# Altium footprint library S805_PCB_LIB.PcbLib: 12 footprints
Each footprint in its own frame and in the unit in brackets; x right, y up, seen from the top. Pads: shape width x height; smd on the part's side, far side on the other; paste and mask are expansions set on the pad; w line width, h text height; cw(c..) or ccw(c..) is an arc to the next point about the centre after c.
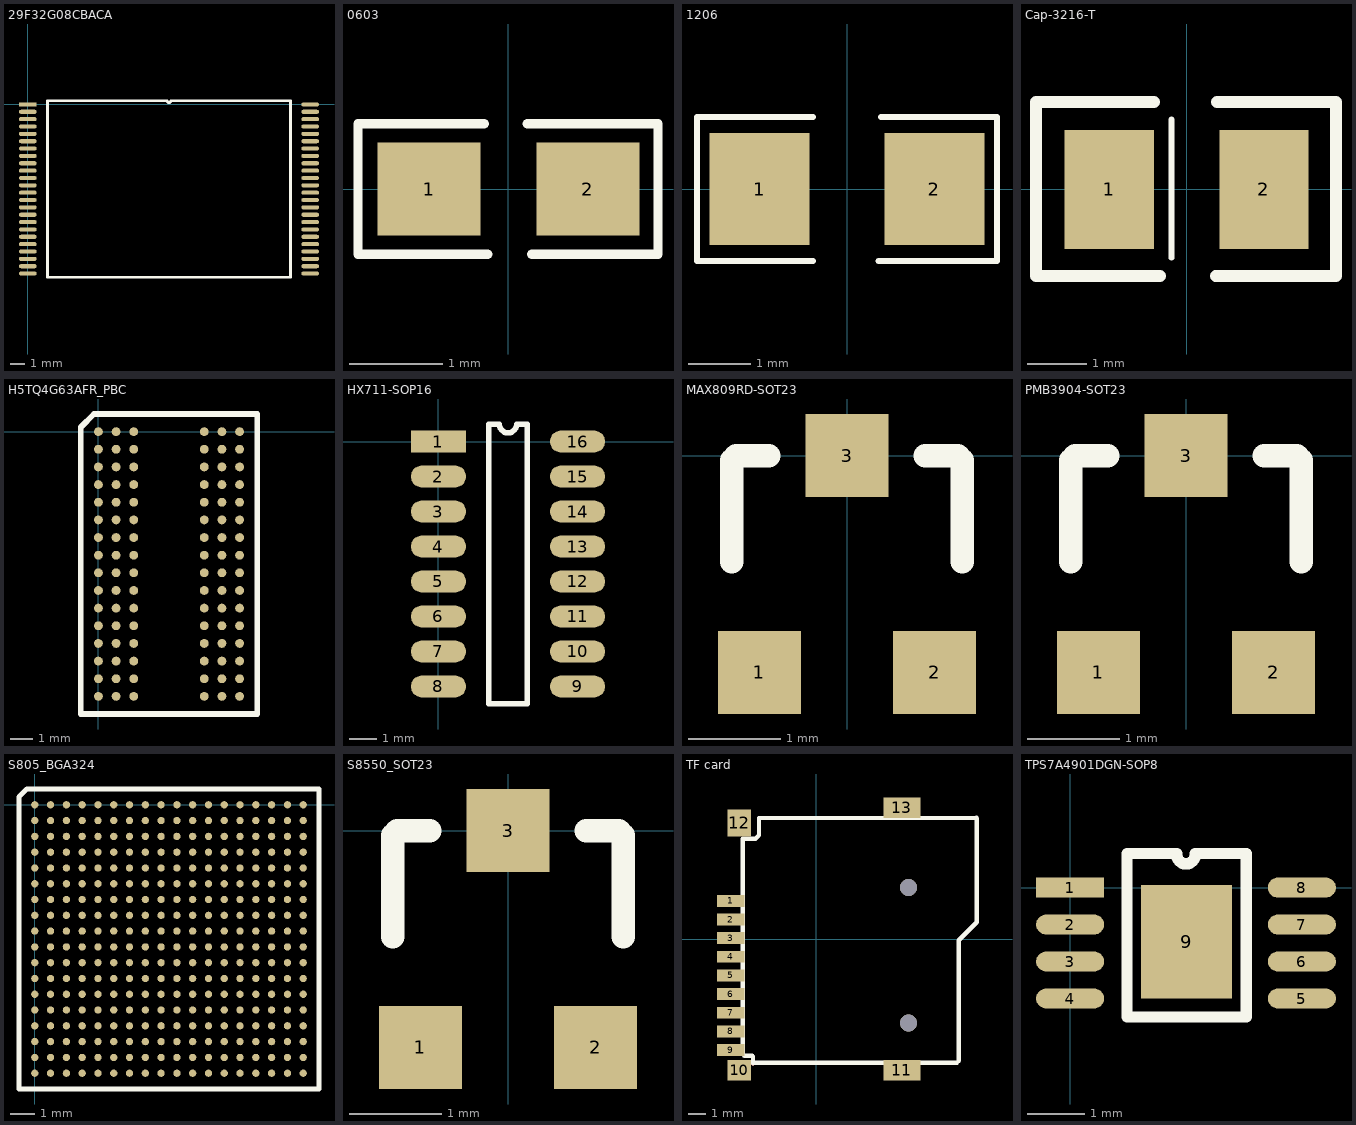
[diagram p0: the footprints below, top view; thin cyan lines are the x and y axes]

## 29F32G08CBACA [mm]
pads (48):
  rect 1.2x0.28 smd: 1(0,0)
  oval 1.2x0.28 smd: 2(0,-0.5) 3(0,-1) 4(0,-1.5) 5(0,-2) 6(0,-2.5) 7(0,-3) 8(0,-3.5) 9(0,-4) 10(0,-4.5) 11(0,-5) 12(0,-5.5) 13(0,-6) 14(0,-6.5) 15(0,-7) 16(0,-7.5) 17(0,-8) 18(0,-8.5) 19(0,-9) 20(0,-9.5) 21(0,-10) 22(0,-10.5) 23(0,-11) 24(0,-11.5) 25(19.2,-11.5) 26(19.2,-11) 27(19.2,-10.5) 28(19.2,-10) 29(19.2,-9.5) 30(19.2,-9) 31(19.2,-8.5) 32(19.2,-8) 33(19.2,-7.5) 34(19.2,-7) 35(19.2,-6.5) 36(19.2,-6) 37(19.2,-5.5) 38(19.2,-5) 39(19.2,-4.5) 40(19.2,-4) 41(19.2,-3.5) 42(19.2,-3) 43(19.2,-2.5) 44(19.2,-2) 45(19.2,-1.5) 46(19.2,-1) 47(19.2,-0.5) 48(19.2,0)
Top Overlay:
  lines w0.2: 1.335,-11.75 17.865,-11.75 17.865,0.25 9.725,0.25 cw(c9.6,0.25) 9.475,0.25 1.335,0.25 1.335,-11.75

## 0603 [mm]
pads (2):
  rect 1.1x1 smd: 1(-0.85,0) 2(0.85,0)
Top Overlay:
  lines w0.1: -0.26,0.7 -1.61,0.7 -1.61,-0.7 -0.22,-0.7 ; 0.2,0.7 1.6,0.7 1.6,-0.7 0.25,-0.7

## 1206 [mm]
pads (2):
  rect 1.6x1.8 smd: 1(-1.4,0) 2(1.4,0)
Top Overlay:
  lines w0.1: -0.55,-1.15 -2.4,-1.15 -2.4,1.15 -0.55,1.15 ; 0.51,-1.15 2.4,-1.15 2.4,1.15 0.55,1.15

## Cap-3216-T [mm]
pads (2):
  rect 1.5x2 smd: 1(-1.3,0) 2(1.3,0)
Top Overlay:
  lines w0.1: -0.25,-1.15 -0.25,1.17
  lines w0.2: -0.55,1.47 -2.53,1.47 -2.53,1.02 -2.53,-1.46 -0.45,-1.46 ; 0.49,-1.46 2.51,-1.46 2.51,1.47 0.51,1.47

## H5TQ4G63AFR_PBC [mm]
pads (96):
  round 0.4 smd: A1(0,0) A2(0.8,0) A3(1.6,0) A7(4.8,0) A8(5.6,0) A9(6.4,0) B1(0,-0.8) B2(0.8,-0.8) B3(1.6,-0.8) B7(4.8,-0.8) B8(5.6,-0.8) B9(6.4,-0.8) C1(0,-1.6) C2(0.8,-1.6) C3(1.6,-1.6) C7(4.8,-1.6) C8(5.6,-1.6) C9(6.4,-1.6) D1(0,-2.4) D2(0.8,-2.4) D3(1.6,-2.4) D7(4.8,-2.4) D8(5.6,-2.4) D9(6.4,-2.4) E1(0,-3.2) E2(0.8,-3.2) E3(1.6,-3.2) E7(4.8,-3.2) E8(5.6,-3.2) E9(6.4,-3.2) F1(0,-4) F2(0.8,-4) F3(1.6,-4) F7(4.8,-4) F8(5.6,-4) F9(6.4,-4) G1(0,-4.8) G2(0.8,-4.8) G3(1.6,-4.8) G7(4.8,-4.8) G8(5.6,-4.8) G9(6.4,-4.8) H1(0,-5.6) H2(0.8,-5.6) H3(1.6,-5.6) H7(4.8,-5.6) H8(5.6,-5.6) H9(6.4,-5.6) J1(0,-6.4) J2(0.8,-6.4) J3(1.6,-6.4) J7(4.8,-6.4) J8(5.6,-6.4) J9(6.4,-6.4) K1(0,-7.2) K2(0.8,-7.2) K3(1.6,-7.2) K7(4.8,-7.2) K8(5.6,-7.2) K9(6.4,-7.2) L1(0,-8) L2(0.8,-8) L3(1.6,-8) L7(4.8,-8) L8(5.6,-8) L9(6.4,-8) M1(0,-8.8) M2(0.8,-8.8) M3(1.6,-8.8) M7(4.8,-8.8) M8(5.6,-8.8) M9(6.4,-8.8) N1(0,-9.6) N2(0.8,-9.6) N3(1.6,-9.6) N7(4.8,-9.6) N8(5.6,-9.6) N9(6.4,-9.6) P1(0,-10.4) P2(0.8,-10.4) P3(1.6,-10.4) P7(4.8,-10.4) P8(5.6,-10.4) P9(6.4,-10.4) R1(0,-11.2) R2(0.8,-11.2) R3(1.6,-11.2) R7(4.8,-11.2) R8(5.6,-11.2) R9(6.4,-11.2) T1(0,-12) T2(0.8,-12) T3(1.6,-12) T7(4.8,-12) T8(5.6,-12) T9(6.4,-12)
Top Overlay:
  lines w0.254: -0.8,-12.8 7.2,-12.8 7.2,0.8 -0.2,0.8 -0.8,0.2 -0.8,-12.8

## HX711-SOP16 [mm]
pads (16):
  rect 2x0.8 smd: 1(0,0)
  oval 2x0.8 smd: 2(0,-1.27) 3(0,-2.54) 4(0,-3.81) 5(0,-5.08) 6(0,-6.35) 7(0,-7.62) 8(0,-8.89) 9(5.05,-8.89) 10(5.05,-7.62) 11(5.05,-6.35) 12(5.05,-5.08) 13(5.05,-3.81) 14(5.05,-2.54) 15(5.05,-1.27) 16(5.05,0)
Top Overlay:
  lines w0.2: 1.835,-9.525 1.835,0.635 2.207,0.635 ccw(c2.525,0.635) 2.842,0.635 3.215,0.635 3.215,-9.525 1.835,-9.525

## MAX809RD-SOT23 [mm]
pads (3):
  rect 0.9x0.9 smd: 1(-0.95,-2.35) 2(0.95,-2.35) 3(0,0)
Top Overlay:
  lines w0.254: -1.25,-1.15 -1.25,-0.05 -1.2,0 -0.85,0 ; 0.85,0 1.2,0 1.25,-0.05 1.25,-1.15

## PMB3904-SOT23 [mm]
pads (3):
  rect 0.9x0.9 smd: 1(-0.95,-2.35) 2(0.95,-2.35) 3(0,0)
Top Overlay:
  lines w0.254: -1.25,-1.15 -1.25,-0.05 -1.2,0 -0.85,0 ; 0.85,0 1.2,0 1.25,-0.05 1.25,-1.15

## S805_BGA324 [mm]
pads (324):
  round 0.3 smd: A1(0,0) A2(0.65,0) A3(1.3,0) A4(1.95,0) A5(2.6,0) A6(3.25,0) A7(3.9,0) A8(4.55,0) A9(5.2,0) A10(5.85,0) A11(6.5,0) A12(7.15,0) A13(7.8,0) A14(8.45,0) A15(9.1,0) A16(9.75,0) A17(10.4,0) A18(11.05,0) B1(0,-0.65) B2(0.65,-0.65) B3(1.3,-0.65) B4(1.95,-0.65) B5(2.6,-0.65) B6(3.25,-0.65) B7(3.9,-0.65) B8(4.55,-0.65) B9(5.2,-0.65) B10(5.85,-0.65) B11(6.5,-0.65) B12(7.15,-0.65) B13(7.8,-0.65) B14(8.45,-0.65) B15(9.1,-0.65) B16(9.75,-0.65) B17(10.4,-0.65) B18(11.05,-0.65) C1(0,-1.3) C2(0.65,-1.3) C3(1.3,-1.3) C4(1.95,-1.3) C5(2.6,-1.3) C6(3.25,-1.3) C7(3.9,-1.3) C8(4.55,-1.3) C9(5.2,-1.3) C10(5.85,-1.3) C11(6.5,-1.3) C12(7.15,-1.3) C13(7.8,-1.3) C14(8.45,-1.3) C15(9.1,-1.3) C16(9.75,-1.3) C17(10.4,-1.3) C18(11.05,-1.3) D1(0,-1.95) D2(0.65,-1.95) D3(1.3,-1.95) D4(1.95,-1.95) D5(2.6,-1.95) D6(3.25,-1.95) D7(3.9,-1.95) D8(4.55,-1.95) D9(5.2,-1.95) D10(5.85,-1.95) D11(6.5,-1.95) D12(7.15,-1.95) D13(7.8,-1.95) D14(8.45,-1.95) D15(9.1,-1.95) D16(9.75,-1.95) D17(10.4,-1.95) D18(11.05,-1.95) E1(0,-2.6) E2(0.65,-2.6) E3(1.3,-2.6) E4(1.95,-2.6) E5(2.6,-2.6) E6(3.25,-2.6) E7(3.9,-2.6) E8(4.55,-2.6) E9(5.2,-2.6) E10(5.85,-2.6) E11(6.5,-2.6) E12(7.15,-2.6) E13(7.8,-2.6) E14(8.45,-2.6) E15(9.1,-2.6) E16(9.75,-2.6) E17(10.4,-2.6) E18(11.05,-2.6) F1(0,-3.25) F2(0.65,-3.25) F3(1.3,-3.25) F4(1.95,-3.25) F5(2.6,-3.25) F6(3.25,-3.25) F7(3.9,-3.25) F8(4.55,-3.25) F9(5.2,-3.25) F10(5.85,-3.25) F11(6.5,-3.25) F12(7.15,-3.25) F13(7.8,-3.25) F14(8.45,-3.25) F15(9.1,-3.25) F16(9.75,-3.25) F17(10.4,-3.25) F18(11.05,-3.25) G1(0,-3.9) G2(0.65,-3.9) G3(1.3,-3.9) G4(1.95,-3.9) G5(2.6,-3.9) G6(3.25,-3.9) G7(3.9,-3.9) G8(4.55,-3.9) G9(5.2,-3.9) G10(5.85,-3.9) G11(6.5,-3.9) G12(7.15,-3.9) G13(7.8,-3.9) G14(8.45,-3.9) G15(9.1,-3.9) G16(9.75,-3.9) G17(10.4,-3.9) G18(11.05,-3.9) H1(0,-4.55) H2(0.65,-4.55) H3(1.3,-4.55) H4(1.95,-4.55) H5(2.6,-4.55) H6(3.25,-4.55) H7(3.9,-4.55) H8(4.55,-4.55) H9(5.2,-4.55) H10(5.85,-4.55) H11(6.5,-4.55) H12(7.15,-4.55) H13(7.8,-4.55) H14(8.45,-4.55) H15(9.1,-4.55) H16(9.75,-4.55) H17(10.4,-4.55) H18(11.05,-4.55) J1(0,-5.2) J2(0.65,-5.2) J3(1.3,-5.2) J4(1.95,-5.2) J5(2.6,-5.2) J6(3.25,-5.2) J7(3.9,-5.2) J8(4.55,-5.2) J9(5.2,-5.2) J10(5.85,-5.2) J11(6.5,-5.2) J12(7.15,-5.2) J13(7.8,-5.2) J14(8.45,-5.2) J15(9.1,-5.2) J16(9.75,-5.2) J17(10.4,-5.2) J18(11.05,-5.2) K1(0,-5.85) K2(0.65,-5.85) K3(1.3,-5.85) K4(1.95,-5.85) K5(2.6,-5.85) K6(3.25,-5.85) K7(3.9,-5.85) K8(4.55,-5.85) K9(5.2,-5.85) K10(5.85,-5.85) K11(6.5,-5.85) K12(7.15,-5.85) K13(7.8,-5.85) K14(8.45,-5.85) K15(9.1,-5.85) K16(9.75,-5.85) K17(10.4,-5.85) K18(11.05,-5.85) L1(0,-6.5) L2(0.65,-6.5) L3(1.3,-6.5) L4(1.95,-6.5) L5(2.6,-6.5) L6(3.25,-6.5) L7(3.9,-6.5) L8(4.55,-6.5) L9(5.2,-6.5) L10(5.85,-6.5) L11(6.5,-6.5) L12(7.15,-6.5) L13(7.8,-6.5) L14(8.45,-6.5) L15(9.1,-6.5) L16(9.75,-6.5) L17(10.4,-6.5) L18(11.05,-6.5) M1(0,-7.15) M2(0.65,-7.15) M3(1.3,-7.15) M4(1.95,-7.15) M5(2.6,-7.15) M6(3.25,-7.15) M7(3.9,-7.15) M8(4.55,-7.15) M9(5.2,-7.15) M10(5.85,-7.15) M11(6.5,-7.15) M12(7.15,-7.15) M13(7.8,-7.15) M14(8.45,-7.15) M15(9.1,-7.15) M16(9.75,-7.15) M17(10.4,-7.15) M18(11.05,-7.15) N1(0,-7.8) N2(0.65,-7.8) N3(1.3,-7.8) N4(1.95,-7.8) N5(2.6,-7.8) N6(3.25,-7.8) N7(3.9,-7.8) N8(4.55,-7.8) N9(5.2,-7.8) N10(5.85,-7.8) N11(6.5,-7.8) N12(7.15,-7.8) N13(7.8,-7.8) N14(8.45,-7.8) N15(9.1,-7.8) N16(9.75,-7.8) N17(10.4,-7.8) N18(11.05,-7.8) P1(0,-8.45) P2(0.65,-8.45) P3(1.3,-8.45) P4(1.95,-8.45) P5(2.6,-8.45) P6(3.25,-8.45) P7(3.9,-8.45) P8(4.55,-8.45) P9(5.2,-8.45) P10(5.85,-8.45) P11(6.5,-8.45) P12(7.15,-8.45) P13(7.8,-8.45) P14(8.45,-8.45) P15(9.1,-8.45) P16(9.75,-8.45) P17(10.4,-8.45) P18(11.05,-8.45) R1(0,-9.1) R2(0.65,-9.1) R3(1.3,-9.1) R4(1.95,-9.1) R5(2.6,-9.1) R6(3.25,-9.1) R7(3.9,-9.1) R8(4.55,-9.1) R9(5.2,-9.1) R10(5.85,-9.1) R11(6.5,-9.1) R12(7.15,-9.1) R13(7.8,-9.1) R14(8.45,-9.1) R15(9.1,-9.1) R16(9.75,-9.1) R17(10.4,-9.1) R18(11.05,-9.1) T1(0,-9.75) T2(0.65,-9.75) T3(1.3,-9.75) T4(1.95,-9.75) T5(2.6,-9.75) T6(3.25,-9.75) T7(3.9,-9.75) T8(4.55,-9.75) T9(5.2,-9.75) T10(5.85,-9.75) T11(6.5,-9.75) T12(7.15,-9.75) T13(7.8,-9.75) T14(8.45,-9.75) T15(9.1,-9.75) T16(9.75,-9.75) T17(10.4,-9.75) T18(11.05,-9.75) U1(0,-10.4) U2(0.65,-10.4) U3(1.3,-10.4) U4(1.95,-10.4) U5(2.6,-10.4) U6(3.25,-10.4) U7(3.9,-10.4) U8(4.55,-10.4) U9(5.2,-10.4) U10(5.85,-10.4) U11(6.5,-10.4) U12(7.15,-10.4) U13(7.8,-10.4) U14(8.45,-10.4) U15(9.1,-10.4) U16(9.75,-10.4) U17(10.4,-10.4) U18(11.05,-10.4) V1(0,-11.05) V2(0.65,-11.05) V3(1.3,-11.05) V4(1.95,-11.05) V5(2.6,-11.05) V6(3.25,-11.05) V7(3.9,-11.05) V8(4.55,-11.05) V9(5.2,-11.05) V10(5.85,-11.05) V11(6.5,-11.05) V12(7.15,-11.05) V13(7.8,-11.05) V14(8.45,-11.05) V15(9.1,-11.05) V16(9.75,-11.05) V17(10.4,-11.05) V18(11.05,-11.05)
Top Overlay:
  lines w0.2: -0.65,-11.7 11.7,-11.7 11.7,0.65 -0.325,0.65 -0.65,0.325 -0.65,-11.7

## S8550_SOT23 [mm]
pads (3):
  rect 0.9x0.9 smd: 1(-0.95,-2.35) 2(0.95,-2.35) 3(0,0)
Top Overlay:
  lines w0.254: -1.25,-1.15 -1.25,-0.05 -1.2,0 -0.85,0 ; 0.85,0 1.2,0 1.25,-0.05 1.25,-1.15

## TF card [mm]
pads (13):
  rect 1.6x0.7 smd: 1(-5.05,2.25) 2(-5.05,1.15) 3(-5.05,0.05) 4(-5.05,-1.05) 5(-5.05,-2.15) 6(-5.05,-3.25) 7(-5.05,-4.35) 8(-5.05,-5.45) 9(-5.05,-6.55)
  rect 1.4x1.2 smd: 10(-4.55,-7.75)
  rect 2.2x1.2 smd: 11(5.05,-7.75) 13(5.05,7.75)
  rect 1.4x1.6 smd: 12(-4.55,6.85)
via 5.45,-4.95 diameter 1 hole 1
via 5.45,3.05 diameter 1 hole 1
Top Layer:
  lines w0.254: -3.738,-7.344 -3.688,-7.293
Top Overlay:
  lines w0.254: -3.738,-7.344 -3.738,-6.937 -3.789,-6.886 -4.246,-6.886 -4.348,-6.785 -4.348,5.915 -3.586,5.915 -3.383,6.118 -3.383,7.134 9.45,7.15 ; -3.688,-7.293 8.301,-7.293 8.403,-7.191 8.403,-0.079 9.47,0.988 9.47,7.13

## TPS7A4901DGN-SOP8 [mm]
pads (9):
  rect 1.2x0.35 smd: 1(0,0)
  oval 1.2x0.35 smd: 2(0,-0.65) 3(0,-1.3) 4(0,-1.95) 5(4.075,-1.95) 6(4.075,-1.3) 7(4.075,-0.65) 8(4.075,0)
  rect 1.6x2 smd: 9(2.05,-0.95)
Top Overlay:
  lines w0.2: 1.875,0.58 ccw(c2.038,0.58) 2.2,0.58 ; 1.875,0.6 1,0.6 1,-2.275 3.1,-2.275 3.1,0.6 2.2,0.6